# Altium footprint library LTST-C191TGKT.PcbLib: 1 footprints
Each footprint in its own frame and in the unit in brackets; x right, y up, seen from the top. Pads: shape width x height; smd on the part's side, far side on the other; paste and mask are expansions set on the pad; w line width, h text height; cw(c..) or ccw(c..) is an arc to the next point about the centre after c.
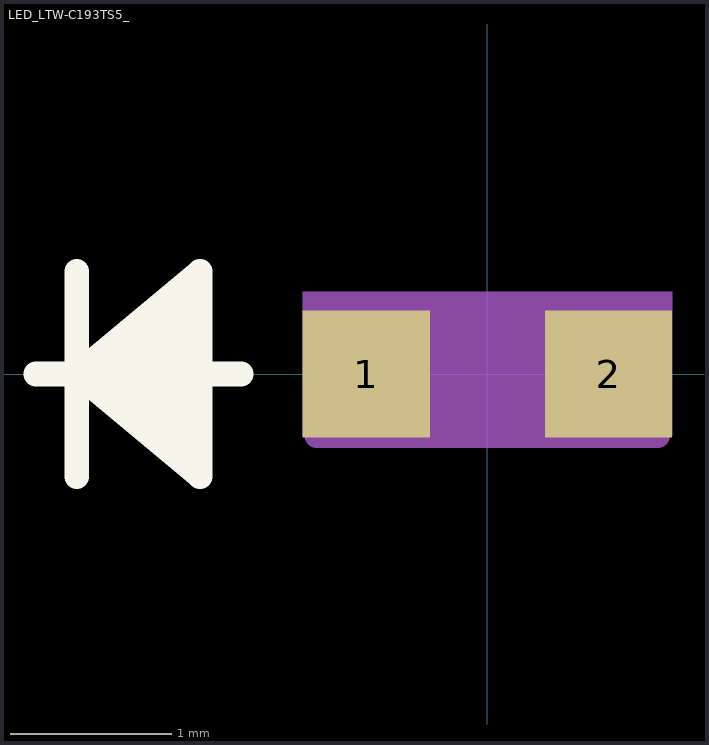
[diagram p0: the footprint, top view; thin cyan lines are the x and y axes]

## LED_LTW-C193TS5_ [mil]
pads (2):
  rect 31x31 smd paste+0 mask+0: 1(-29.5,0) 2(29.5,0)
Top Overlay:
  lines w6: -110,0 -60,0 ; -100,-25 -100,25 ; -70,-20 -100,0 ; -70,-15 -100,0 ; -70,-10 -100,0 ; -70,-5 -100,0 ; -70,5 -100,0 ; -70,10 -100,0 ; -70,15 -100,0 ; -70,20 -100,0 ; -100,0 -70,-25 -70,25 -100,0
Mechanical 5:
  region: 45,-15 -45,-15 -45,15 45,15
Mechanical 13:
  lines w1: -110,0 -60,0 ; -100,-25 -100,25 ; -70,-20 -100,0 ; -70,-15 -100,0 ; -70,-10 -100,0 ; -70,-5 -100,0 ; -70,5 -100,0 ; -70,10 -100,0 ; -70,15 -100,0 ; -70,20 -100,0 ; -100,0 -70,-25 -70,25 -100,0 ; -31.5,-16 -31.5,16 31.5,16 31.5,-16 -31.5,-16
Mechanical 15:
  region: -45,-15 -45,20 -15,20 45,20 45,-15
  lines w6: -41.5,-15 -41.5,15 41.5,15 41.5,-15 -41.5,-15
3D body: height 10, standoff 0, extent 0,0 10,10
3D body "User Library-LED_0603_G.STEP": height 23.62, standoff -0.08, extent -31.49,-15.74 31.51,15.75